# Altium schematic symbol library RF-UNIT_1.SCHLIB: 39 symbols
Pins are listed as number, name and electrical type; pins without a type are passive.

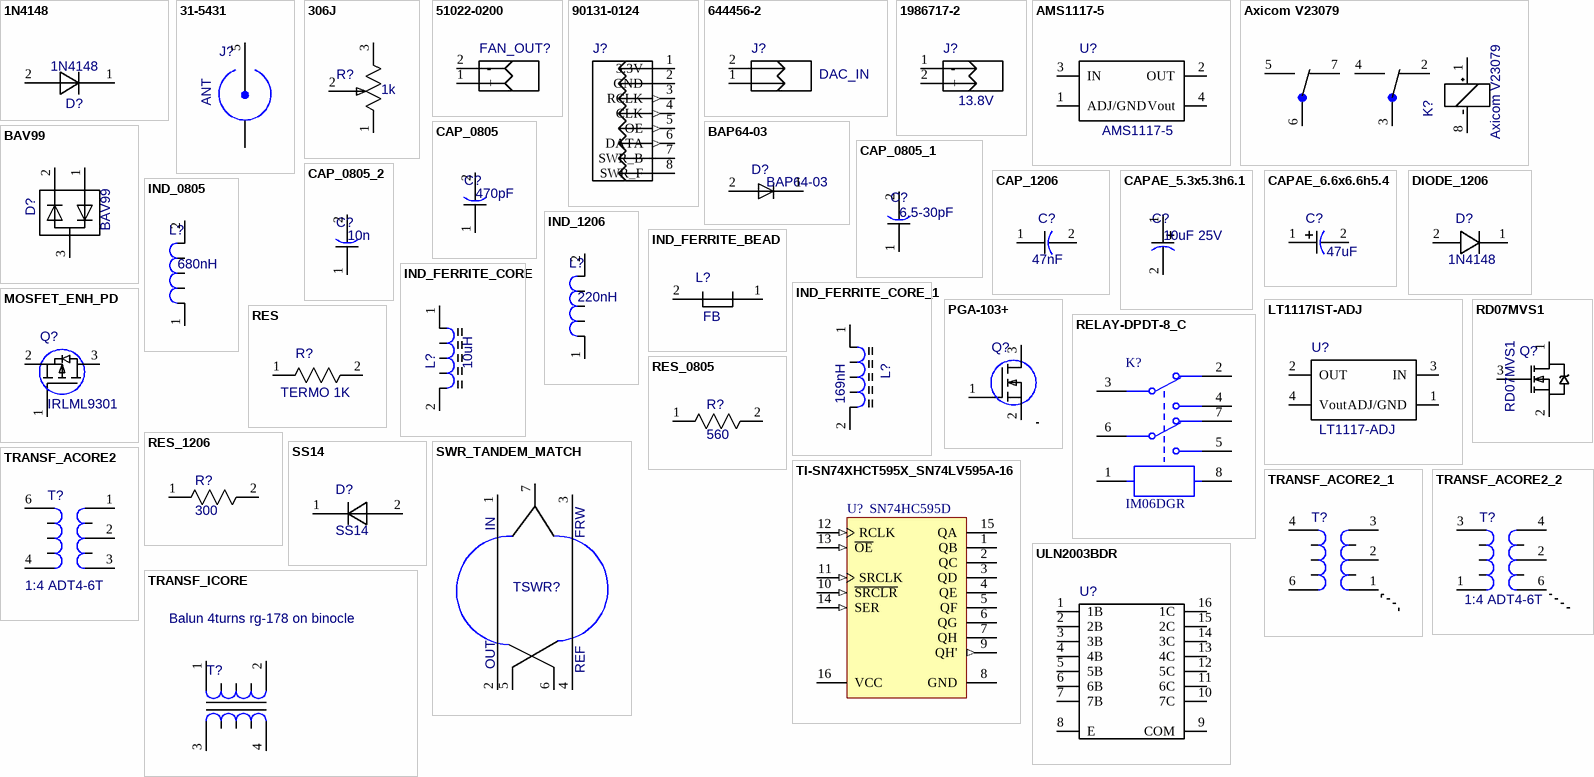
[diagram p0: symbols 1N4148 to ULN2003BDR]

## 1N4148
designator D?
Value: 1N4148
footprint DIO_1206
footprint 1N4148
pins: 1 K, 2 A

## 31-5431
designator J?  value ANT  (hidden comment: 31-5431)
footprint 1053354-1
footprint 31-5431
pins: 1 GND, 2 GND, 3 GND, 4 GND, 5 CON

## 306J
designator R?  value 1k  (hidden comment: 306J)
footprint 306J
pins: 1 CCW, 2 W, 3 CW

## 51022-0200
designator FAN_OUT?  (value not drawn)
footprint HDR-1x2T/2.54/5x2
footprint 51022-0200
pins: 1 +, 2 -

## 90131-0124
designator J?  (value not drawn)
Value: MOTHERBOARD
footprint HDR-2x4T/2.54x2.54/10x5
footprint 90131-0124
pins: 1 3.3V, 2 GND, 3 RCLK (out), 4 CLK (out), 5 OE (out), 6 DATA (out), 7 SWR_B, 8 SWR_F

## 644456-2
designator J?  value DAC_IN  (hidden comment: 644456-2)
footprint HDR-1x2T/2.54/5x2
footprint 644456-2
pins: 1 P1, 2 P2

## 1986717-2
designator J?  value 13.8V  (hidden comment: 1986717-2)
footprint TBH-1x2/3.81/8x3
footprint 1986717-2
pins: 1 -, 2 +

## AMS1117-5
designator U?
Value: AMS1117-5
footprint SOT223-4
footprint AMS1117-5
pins: 1 ADJ/GND, 2 OUT, 3 IN, 4 Vout

## Axicom V23079
designator K?
Value: *
footprint V23079
pins: 1 +, 2 O, 3 P, 4 S, 5 S, 6 P, 7 O, 8 -

## BAP64-03
designator D?
Value: BAP64-03
footprint SOD-323
pins: 1 (C), 2 (A)

## BAV99
designator D?
Value: BAV99
footprint SOT23
pins: 1 A(D1), 2 C(D2), 3 C(D1),A(D2)

## CAP_0805
designator C?  value 470pF  (hidden comment: CAP_0805)
footprint CAP_0805
pins: 1, 2

## CAP_0805_1
designator C?, comment value 6.5-30pF  (hidden comment: CAP_0805)
footprint CAP_1206
pins: 1, 2

## CAP_0805_2
designator C?, comment value 10n  (hidden comment: CAP_0805)
footprint 6-0805_M (Chip Resistor, Body 2.0x1.2mm, IPC Low Density)
pins: 1, 2

## CAP_1206
designator C?  value 47nF  (hidden comment: CAP_1206)
footprint CAP_1206
pins: 1, 2

## CAPAE_5.3x5.3h6.1
designator C?  value 10uF 25V  (hidden comment: CAPAE_5.3x5.3h6.1)
footprint TC_2413
footprint CAPAE_5.3x5.3h6.1
pins: 1 PLUS, 2 MINUS

## CAPAE_6.6x6.6h5.4
designator C?  value 47uF  (hidden comment: CAPAE_6.6x6.6h5.4)
footprint CAPAE-6.6x6.6h5.4
footprint CAPAE_6.6x6.6h5.4
pins: 1 PLUS, 2 MINUS

## DIODE_1206
designator D?  value 1N4148  (hidden comment: DIODE_1206)
footprint DIO_1206
footprint DIODE_1206
pins: 1 K, 2 A

## IND_0805
designator L?  value 680nH  (hidden comment: IND_0805)
footprint IND_0805
pins: 1, 2

## IND_1206
designator L?  value 220nH  (hidden comment: IND_1206)
footprint IND_1206
pins: 1, 2

## IND_FERRITE_BEAD
designator L?  value FB  (hidden comment: IND_FERRITE_BEAD)
Ferrite bead on conductor
footprint RES-6.5/3.4x1.9
footprint IND_FERRITE_BEAD
pins: 1, 2

## IND_FERRITE_CORE
designator L?  value 10uH  (hidden comment: IND_FERRITE_CORE)
Inductor
footprint B82464Z4
footprint IND_FERRITE_CORE
pins: 1 A, 2 B

## IND_FERRITE_CORE_1
designator L?, comment value 169nH  (hidden comment: IND_FERRITE_CORE)
Inductor
footprint B82464Z4
footprint IND_FERRITE_CORE_1
pins: 1 A, 2 B

## LT1117IST-ADJ
designator U?  value LT1117-ADJ  (hidden comment: LT1117IST-ADJ)
footprint SOT223-4
footprint LT1117IST-ADJ
pins: 1 ADJ/GND, 2 OUT, 3 IN, 4 Vout

## MOSFET_ENH_PD
designator Q?  value IRLML9301  (hidden comment: MOSFET_ENH_PD)
MOSFET
footprint SOT23
pins: 1 G, 2 S, 3 D

## PGA-103+
designator Q?  (value not drawn)
MOSFET; Value: PGA-103+
footprint SOT89
pins: 0, 1 G, 2 S, 3 D

## RD07MVS1
designator Q?
Value: RD07MVS1
footprint RD07MVS1
pins: 1 D, 2 S, 3 G

## RELAY-DPDT-8_C
designator K?, comment IM06DGR
Signal Relay, 5 A, 12 VDC, -40 to 85 degC, 8-Pin SMD, RoHS, Tape and Reel; Manufacturer: TE Connectivity; Contact Voltage AC Nom: 250V; Approval Category: ULRecognised; Contact Current Max: 5A; Coil Type: DC; Coil Voltage VDC Nom: 12V; Dielectric Voltage Coil to Contact: 1800V; Switching Power Max: 62.5VA; Switching Voltage AC / DC Max: 250VAC; External Depth: 10mm; Approval Bodies: EN/IEC; No. of Pins: 8; Contact Configuration: DPCO; Contact Voltage DC Nom: 220V; Coil Resistance: 1.028kohm; Coil Power Cont: 140mW; Dielectric Voltage Contact to Contact: 1000V; Contact Current DC Max: 2A; Switching Voltage Max: 220VDC; Insulation Resistance: 1000Mohm; No. of Poles: 2; Switching Voltage AC / DC Min: 100µV; Contact Resistance: 50mohm; External Width: 6mm; Switch Power Max: 60W; Operating Voltage Range: 9Vto28.9V; Insulation Resistance Voltage: 500VDC; External Length / Height: 5.65mm; Relay Mounting: SMD; Package Reference: SMT-8; Datasheet URL: http://www.farnell.com/datasheets/1717896.pdf; Manufacturer URL: http://www.te.com/; Operating Temperature Max: 85degC; Series: IM; Mounting Type: SMT; Package Description: 8-Pin Surface Mount Device, Body 10 x 6 mm; DC Coil Power: 140mW; MSL: MSL3-168hours; Contact Current AC Max: 2A; Datasheet Version: Rev. 0411, 04/2011; Operating Temperature Min: -40degC; External Height: 5.65mm
footprint TECO-SMT-8_V (SMT, 8-Leads, Body 10 x 6 mm)
pins: 1, 2, 3, 4, 5, 6, 7, 8

## RES
designator R?  value TERMO 1K  (hidden comment: RES)
footprint RES-6.5/3.4x1.9
footprint RES
pins: 1 A, 2 B

## RES_0805
designator R?  value 560  (hidden comment: RES_0805)
footprint RES_0805
pins: 1, 2

## RES_1206
designator R?  value 300  (hidden comment: RES_1206)
footprint RES_1206
pins: 1, 2

## SS14
designator D?
Value: SS14
footprint DIO_1206
footprint SS14
pins: 1 K, 2 A

## SWR_TANDEM_MATCH
designator TSWR?  (value not drawn)
footprint SWR_DETECTOR_TANDEM_MATCH
footprint SWR_TANDEM_MATCH
pins: 1, 2, 3, 4, 5, 6, 7
text: IN; FRW; OUT; REF

## TI-SN74XHCT595X_SN74LV595A-16
designator U?, comment SN74HC595D
8-Bit Shift Registers With 3-State Output Registers, D0016A, TUBE; Manufacturer: Texas Instruments; Bits: 8; F @ Nom Voltage(Max)(Mhz): 28; Voltage(Nom)(V): 6; ICC @ Nom Voltage(Max)(mA): 0.08; Output Drive (IOL/IOH)(Max)(mA): 7.8/-7.8; tpd @ Nom Voltage(Max)(ns): 34; 3-State Output: Yes; VCC(Min)(V): 2; Output Type: CMOS; Technology Family: HC; Rating: Military; Generic Part Number: SN74HC595; PackageReference: D0016A; Code_JEDEC: MS-012 variation AC; Operating Temperature Range(C): -40 to 85; VCC(Max)(V): 6; DatasheetVersion: SCLS041H; Input Type: CMOS; PackageVersion: http://www.ti.com/lit/ml/mpds178g/mpds178g.pdf
footprint D0016A_L (SOIC, 16-Leads, Body 10x4mm, Pitch 1.27mm, IPC High Density)
footprint D0016A_M (SOIC, 16-Leads, Body 10x4mm, Pitch 1.27mm, IPC Low Density)
footprint D0016A_N (SOIC, 16-Leads, Body 10x4mm, Pitch 1.27mm, IPC Medium Density)
pins: 1 QB (hiz) "QB Output", 2 QC (hiz) "QC Output", 3 QD (hiz) "QD Output", 4 QE (hiz) "QE Output", 5 QF (hiz) "QF Output", 6 QG (hiz) "QG Output", 7 QH (hiz) "QH Output", 8 GND (power) "Ground Pin", 9 QH' (out) "QH' Output", 10 ~{SRCLR} (in) "S\R\C\L\R\ Input", 11 SRCLK (in) "SRCLK Input", 12 RCLK (in) "RCLK Input", 13 ~{OE} (in) "Output Enable Pin", 14 SER (in) "SER Input", 15 QA (hiz) "QA Output", 16 VCC (power) "Power Pin"

## TRANSF_ACORE2
designator T?  value 1:4 ADT4-6T  (hidden comment: TRANSF_ACORE2)
Transformer
footprint ADT-TRANS-HYBRID
footprint TRANSF_ACORE2
pins: 1 S3, 2 S2, 3 S1, 4 P1, 6 P2, 7 0, 9 0, 10 0, 11 0

## TRANSF_ACORE2_1
designator T?, comment TRANSF_ACORE2  (value not drawn)
Transformer; Value: 1:1 ADT1-6T
footprint ADT-TRANS-HYBRID
footprint TRANSF_ACORE2_2
pins: 1 S1, 2 S2, 3 S3, 4 P2, 6 P1, 7, 8, 9, 10, 11

## TRANSF_ACORE2_2
designator T?, comment value 1:4 ADT4-6T  (hidden comment: TRANSF_ACORE2)
Transformer
footprint ADT-TRANS-HYBRID
footprint TRANSF_ACORE2_1
pins: 1 P1, 2 S2, 3 P2, 4 S3, 6 S1, 7 0, 9 0, 10 0, 11 0

## TRANSF_ICORE
designator T?  value Balun 4turns rg-178 on binocle  (hidden comment: TRANSF_ICORE)
Transformer
footprint RF-OUT-TRANS
footprint TRANSF_ICORE
pins: 1 P1, 2 P2, 3 S1, 4 S2

## ULN2003BDR
designator U?  (value not drawn)
Value: ULN2003
footprint SOIC-16/150mil
footprint ULN2003BDR
pins: 1 1B, 2 2B, 3 3B, 4 4B, 5 5B, 6 6B, 7 7B, 8 E, 9 COM, 10 7C, 11 6C, 12 5C, 13 4C, 14 3C, 15 2C, 16 1C